# EAGLE library part FLIPPER-GPIO-18-RA (library flipper-gpio)
Flipper Zero full 18-pin Right-angle GPIO connector See Measures layer in Board view for mechanical dimensions of the board outline and how it relates to this header. The Flipper_GPIO_Dimension (100) layer in Board view contains a pre-made outline that matches the Flipper Zero documentation. This can be included as the board outline, but be sure that these exactly line up with the existing outline! See Info layer in Schematic view for table of all of the pin MUX settings.
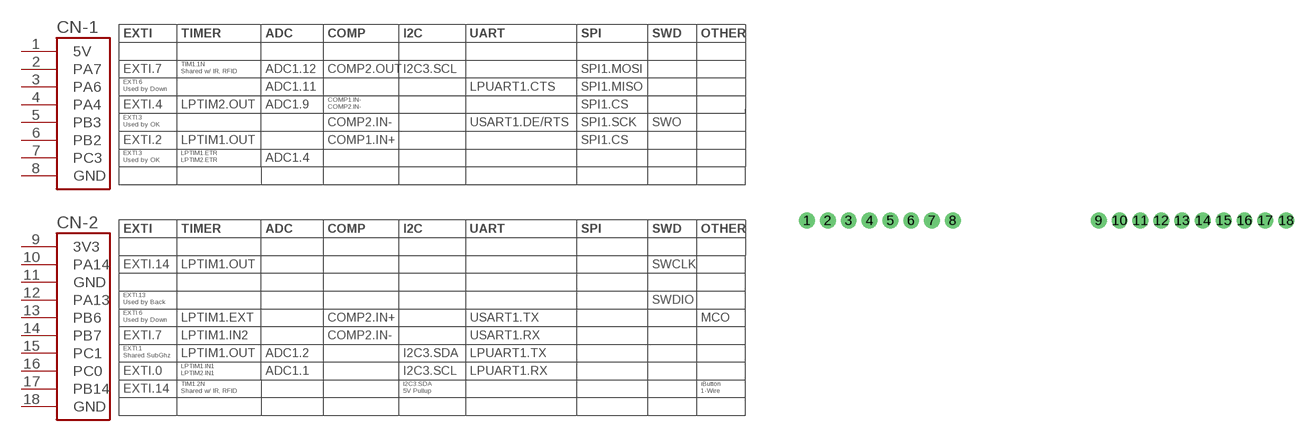
[diagram p2: symbol with the pads of FLIPPER-GPIO-18-RA; footprint FLIPPER-GPIO-18-RA]

Designator prefix CN; gates -1=FLIPPER-GPIO-8 -2=FLIPPER-GPIO-10

## FLIPPER-GPIO-18-RA  [FLIPPER-GPIO-18-RA]
1  -1:5V
2  -1:PA7
3  -1:PA6
4  -1:PA4
5  -1:PB3
6  -1:PB2
7  -1:PC3
8  -1:GND
9  -2:3V3
10  -2:PA14
11  -2:GND
12  -2:PA13
13  -2:PB6
14  -2:PB7
15  -2:PC1
16  -2:PC0
17  -2:PB14
18  -2:GND

## Footprint FLIPPER-GPIO-18-RA (pad centres in mm)
Flipper Zero full 18-pin Right-angle GPIO connector See Measures layer for mechanical dimensions of the board outline and how it relates to this header. The Flipper_GPIO_Dimension (100) layer contains a pre-made outline that matches the Flipper Zero documentation. This can be included as the board outline, but be sure that these exactly line up with the existing outline!
drill 1.016 pad 1.93: 1 0,0; 2 2.54,0; 3 5.08,0; 4 7.62,0; 5 10.16,0; 6 12.7,0; 7 15.24,0; 8 17.78,0; 9 35.56,0; 10 38.1,0; 11 40.64,0; 12 43.18,0; 13 45.72,0; 14 48.26,0; 15 50.8,0; 16 53.34,0; 17 55.88,0; 18 58.42,0